# EAGLE library part TPA3138D2PWP (library wheat)
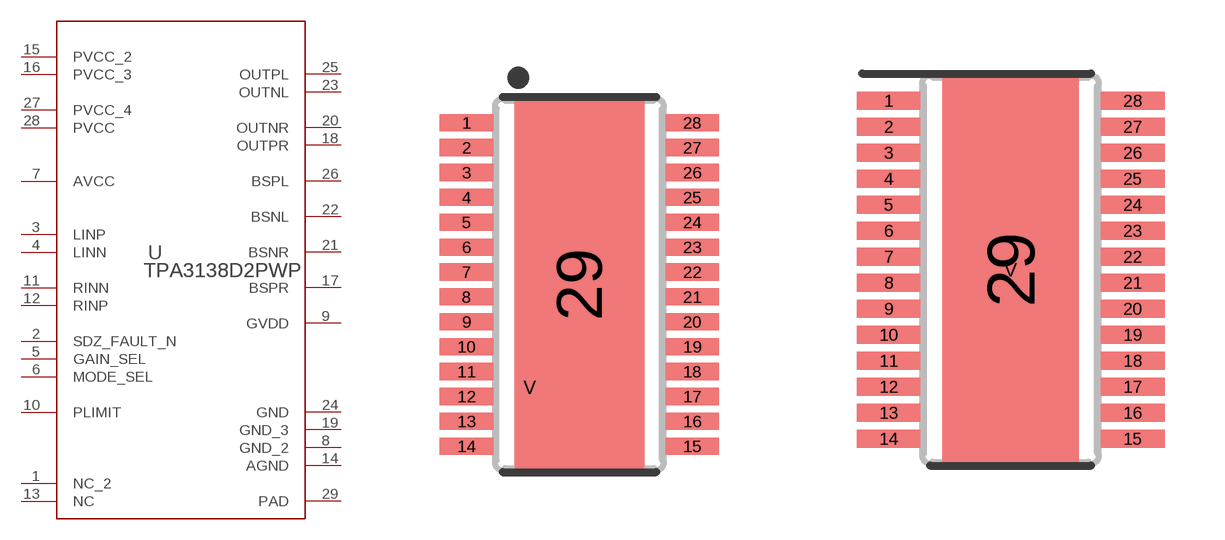
[diagram p291: symbol with the pads of PWP0028H_N; footprints PWP0028H_N, PWP0028H_M]

Designator prefix U

## TPA3138D2PWP (COPYRIGHT: Copyright (C) 2023 Ultra Librarian. All rights reserved.; MANUFACTURER_PART_NUMBER: TPA3138D2PWP; MFR_NAME: Texas Instruments; REFDES: RefDes; TYPE: TYPE)  [PWP0028H_N]
1  NC_2  pas
2  SDZ_FAULT_N
3  LINP  in
4  LINN  in
5  GAIN_SEL  in
6  MODE_SEL  in
7  AVCC  pwr
8  GND_2  pwr
9  GVDD  out
10  PLIMIT  in
11  RINN  in
12  RINP  in
13  NC  pas
14  AGND  pwr
15  PVCC_2  pwr
16  PVCC_3  pwr
17  BSPR  in
18  OUTPR  out
19  GND_3  pwr
20  OUTNR  out
21  BSNR  in
22  BSNL  in
23  OUTNL  out
24  GND  pwr
25  OUTPL  out
26  BSPL  in
27  PVCC_4  pwr
28  PVCC  pwr
29  PAD  pwr

## TPA3138D2PWPPWP0028H_M (COPYRIGHT: Copyright (C) 2023 Ultra Librarian. All rights reserved.; MANUFACTURER_PART_NUMBER: TPA3138D2PWP; MFR_NAME: Texas Instruments; REFDES: RefDes; TYPE: TYPE)  [PWP0028H_M]
Pads as for PWP0028H_N

## TPA3138D2PWPPWP0028H_L (COPYRIGHT: Copyright (C) 2023 Ultra Librarian. All rights reserved.; MANUFACTURER_PART_NUMBER: TPA3138D2PWP; MFR_NAME: Texas Instruments; REFDES: RefDes; TYPE: TYPE)  [PWP0028H_L]
Pads as for PWP0028H_N

## Footprint PWP0028H_N (pad centres in mm)
smd 1.4 x 0.45: 1 -2.95,4.225; 2 -2.95,3.575; 3 -2.95,2.925; 4 -2.95,2.275; 5 -2.95,1.625; 6 -2.95,0.975; 7 -2.95,0.325; 8 -2.95,-0.325; 9 -2.95,-0.975; 10 -2.95,-1.625; 11 -2.95,-2.275; 12 -2.95,-2.925; 13 -2.95,-3.575; 14 -2.95,-4.225; 15 2.95,-4.225; 16 2.95,-3.575; 17 2.95,-2.925; 18 2.95,-2.275; 19 2.95,-1.625; 20 2.95,-0.975; 21 2.95,-0.325; 22 2.95,0.325; 23 2.95,0.975; 24 2.95,1.625; 25 2.95,2.275; 26 2.95,2.925; 27 2.95,3.575; 28 2.95,4.225
smd 3.4 x 9.7: 29 0,0
smd 0.5 x 0.5: V -1.3,-2.7

## Footprint PWP0028H_M (pad centres in mm)
smd 1.6 x 0.45: 1 -3.05,4.225; 2 -3.05,3.575; 3 -3.05,2.925; 4 -3.05,2.275; 5 -3.05,1.625; 6 -3.05,0.975; 7 -3.05,0.325; 8 -3.05,-0.325; 9 -3.05,-0.975; 10 -3.05,-1.625; 11 -3.05,-2.275; 12 -3.05,-2.925; 13 -3.05,-3.575; 14 -3.05,-4.225; 15 3.05,-4.225; 16 3.05,-3.575; 17 3.05,-2.925; 18 3.05,-2.275; 19 3.05,-1.625; 20 3.05,-0.975; 21 3.05,-0.325; 22 3.05,0.325; 23 3.05,0.975; 24 3.05,1.625; 25 3.05,2.275; 26 3.05,2.925; 27 3.05,3.575; 28 3.05,4.225
smd 3.4 x 9.7: 29 0,0
smd 0.5 x 0.5: V 0,0

## Footprint PWP0028H_L (pad centres in mm)
smd 1.2 x 0.4: 1 -2.85,4.225; 2 -2.85,3.575; 3 -2.85,2.925; 4 -2.85,2.275; 5 -2.85,1.625; 6 -2.85,0.975; 7 -2.85,0.325; 8 -2.85,-0.325; 9 -2.85,-0.975; 10 -2.85,-1.625; 11 -2.85,-2.275; 12 -2.85,-2.925; 13 -2.85,-3.575; 14 -2.85,-4.225; 15 2.85,-4.225; 16 2.85,-3.575; 17 2.85,-2.925; 18 2.85,-2.275; 19 2.85,-1.625; 20 2.85,-0.975; 21 2.85,-0.325; 22 2.85,0.325; 23 2.85,0.975; 24 2.85,1.625; 25 2.85,2.275; 26 2.85,2.925; 27 2.85,3.575; 28 2.85,4.225
smd 3.4 x 9.7: 29 0,0
smd 0.5 x 0.5: V 0,0